# EAGLE library part SPM1004-5V0C (library ClintonLib)
Sumida SPM1004-5V0C Non-Isolated SMD/SMT DC/DC Converter 12V-5V 6A LGA-73 15mm x 9mm x 3mm http://www.mouser.com/ProductDetail/Sumida/SPM1004-5V0C http://www.mouser.com/ds/2/390/SPM1004_Datasheet_V3.3-922924.pdf
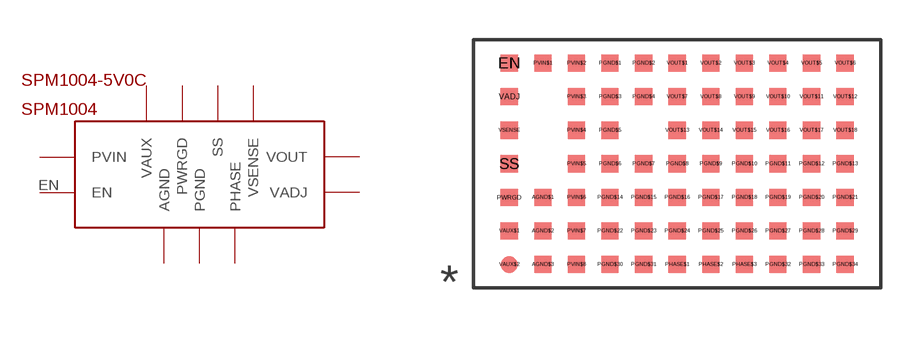
[diagram p0: symbol with the pads of SPM1004-5V0C; footprint SPM1004-5V0C]

Designator prefix SPM1004

## SPM1004-5V0C  [SPM1004-5V0C]
AGND$1  AGND
AGND$2  AGND
AGND$3  AGND
EN  EN
PGND$1  PGND
PGND$2  PGND
PGND$3  PGND
PGND$4  PGND
PGND$5  PGND
PGND$6  PGND
PGND$7  PGND
PGND$8  PGND
PGND$9  PGND
PGND$10  PGND
PGND$11  PGND
PGND$12  PGND
PGND$13  PGND
PGND$14  PGND
PGND$15  PGND
PGND$16  PGND
PGND$17  PGND
PGND$18  PGND
PGND$19  PGND
PGND$20  PGND
PGND$21  PGND
PGND$22  PGND
PGND$23  PGND
PGND$24  PGND
PGND$25  PGND
PGND$26  PGND
PGND$27  PGND
PGND$28  PGND
PGND$29  PGND
PGND$30  PGND
PGND$31  PGND
PGND$32  PGND
PGND$33  PGND
PGND$34  PGND
PHASE$1  PHASE
PHASE$2  PHASE
PHASE$3  PHASE
PVIN$1  PVIN
PVIN$2  PVIN
PVIN$3  PVIN
PVIN$4  PVIN
PVIN$5  PVIN
PVIN$6  PVIN
PVIN$7  PVIN
PVIN$8  PVIN
PWRGD  PWRGD
SS  SS
VADJ  VADJ
VAUX$1  VAUX
VAUX$2  VAUX
VOUT$1  VOUT
VOUT$2  VOUT
VOUT$3  VOUT
VOUT$4  VOUT
VOUT$5  VOUT
VOUT$6  VOUT
VOUT$7  VOUT
VOUT$8  VOUT
VOUT$9  VOUT
VOUT$10  VOUT
VOUT$11  VOUT
VOUT$12  VOUT
VOUT$13  VOUT
VOUT$14  VOUT
VOUT$15  VOUT
VOUT$16  VOUT
VOUT$17  VOUT
VOUT$18  VOUT
VSENSE  VSENSE

## Footprint SPM1004-5V0C (pad centres in mm)
Low-profile LGA switching non-isolated POL DC-DC converter, 9-15Vin, 5Vout, 6Aout Used in KS-2 dash versions 0.1 and 0.2 Read datasheet for input and output capacitor values and pin functions
smd 0.65 x 0.65: AGND$1 -5.08,-1.27; AGND$2 -5.08,-2.54; AGND$3 -5.08,-3.81; EN -6.35,3.81; PGND$1 -2.54,3.81; PGND$2 -1.27,3.81; PGND$3 -2.54,2.54; PGND$4 -1.27,2.54; PGND$5 -2.54,1.27; PGND$6 -2.54,0; PGND$7 -1.27,0; PGND$8 0,0; PGND$9 1.27,0; PGND$10 2.54,0; PGND$11 3.81,0; PGND$12 5.08,0; PGND$13 6.35,0; PGND$14 -2.54,-1.27; PGND$15 -1.27,-1.27; PGND$16 0,-1.27; PGND$17 1.27,-1.27; PGND$18 2.54,-1.27; PGND$19 3.81,-1.27; PGND$20 5.08,-1.27; PGND$21 6.35,-1.27; PGND$22 -2.54,-2.54; PGND$23 -1.27,-2.54; PGND$24 0,-2.54; PGND$25 1.27,-2.54; PGND$26 2.54,-2.54; PGND$27 3.81,-2.54; PGND$28 5.08,-2.54; PGND$29 6.35,-2.54; PGND$30 -2.54,-3.81; PGND$31 -1.27,-3.81; PGND$32 3.81,-3.81; PGND$33 5.08,-3.81; PGND$34 6.35,-3.81; PHASE$1 0,-3.81; PHASE$2 1.27,-3.81; PHASE$3 2.54,-3.81; PVIN$1 -5.08,3.81; PVIN$2 -3.81,3.81; PVIN$3 -3.81,2.54; PVIN$4 -3.81,1.27; PVIN$5 -3.81,0; PVIN$6 -3.81,-1.27; PVIN$7 -3.81,-2.54; PVIN$8 -3.81,-3.81; PWRGD -6.35,-1.27; SS -6.35,0; VADJ -6.35,2.54; VAUX$1 -6.35,-2.54; VAUX$2 -6.35,-3.81; VOUT$1 0,3.81; VOUT$2 1.27,3.81; VOUT$3 2.54,3.81; VOUT$4 3.81,3.81; VOUT$5 5.08,3.81; VOUT$6 6.35,3.81; VOUT$7 0,2.54; VOUT$8 1.27,2.54; VOUT$9 2.54,2.54; VOUT$10 3.81,2.54; VOUT$11 5.08,2.54; VOUT$12 6.35,2.54; VOUT$13 0,1.27; VOUT$14 1.27,1.27; VOUT$15 2.54,1.27; VOUT$16 3.81,1.27; VOUT$17 5.08,1.27; VOUT$18 6.35,1.27; VSENSE -6.35,1.27